# Altium integrated library TI Data Converters Digital to Analog Converter.IntLib: 1533 symbols (part 83 of 99)
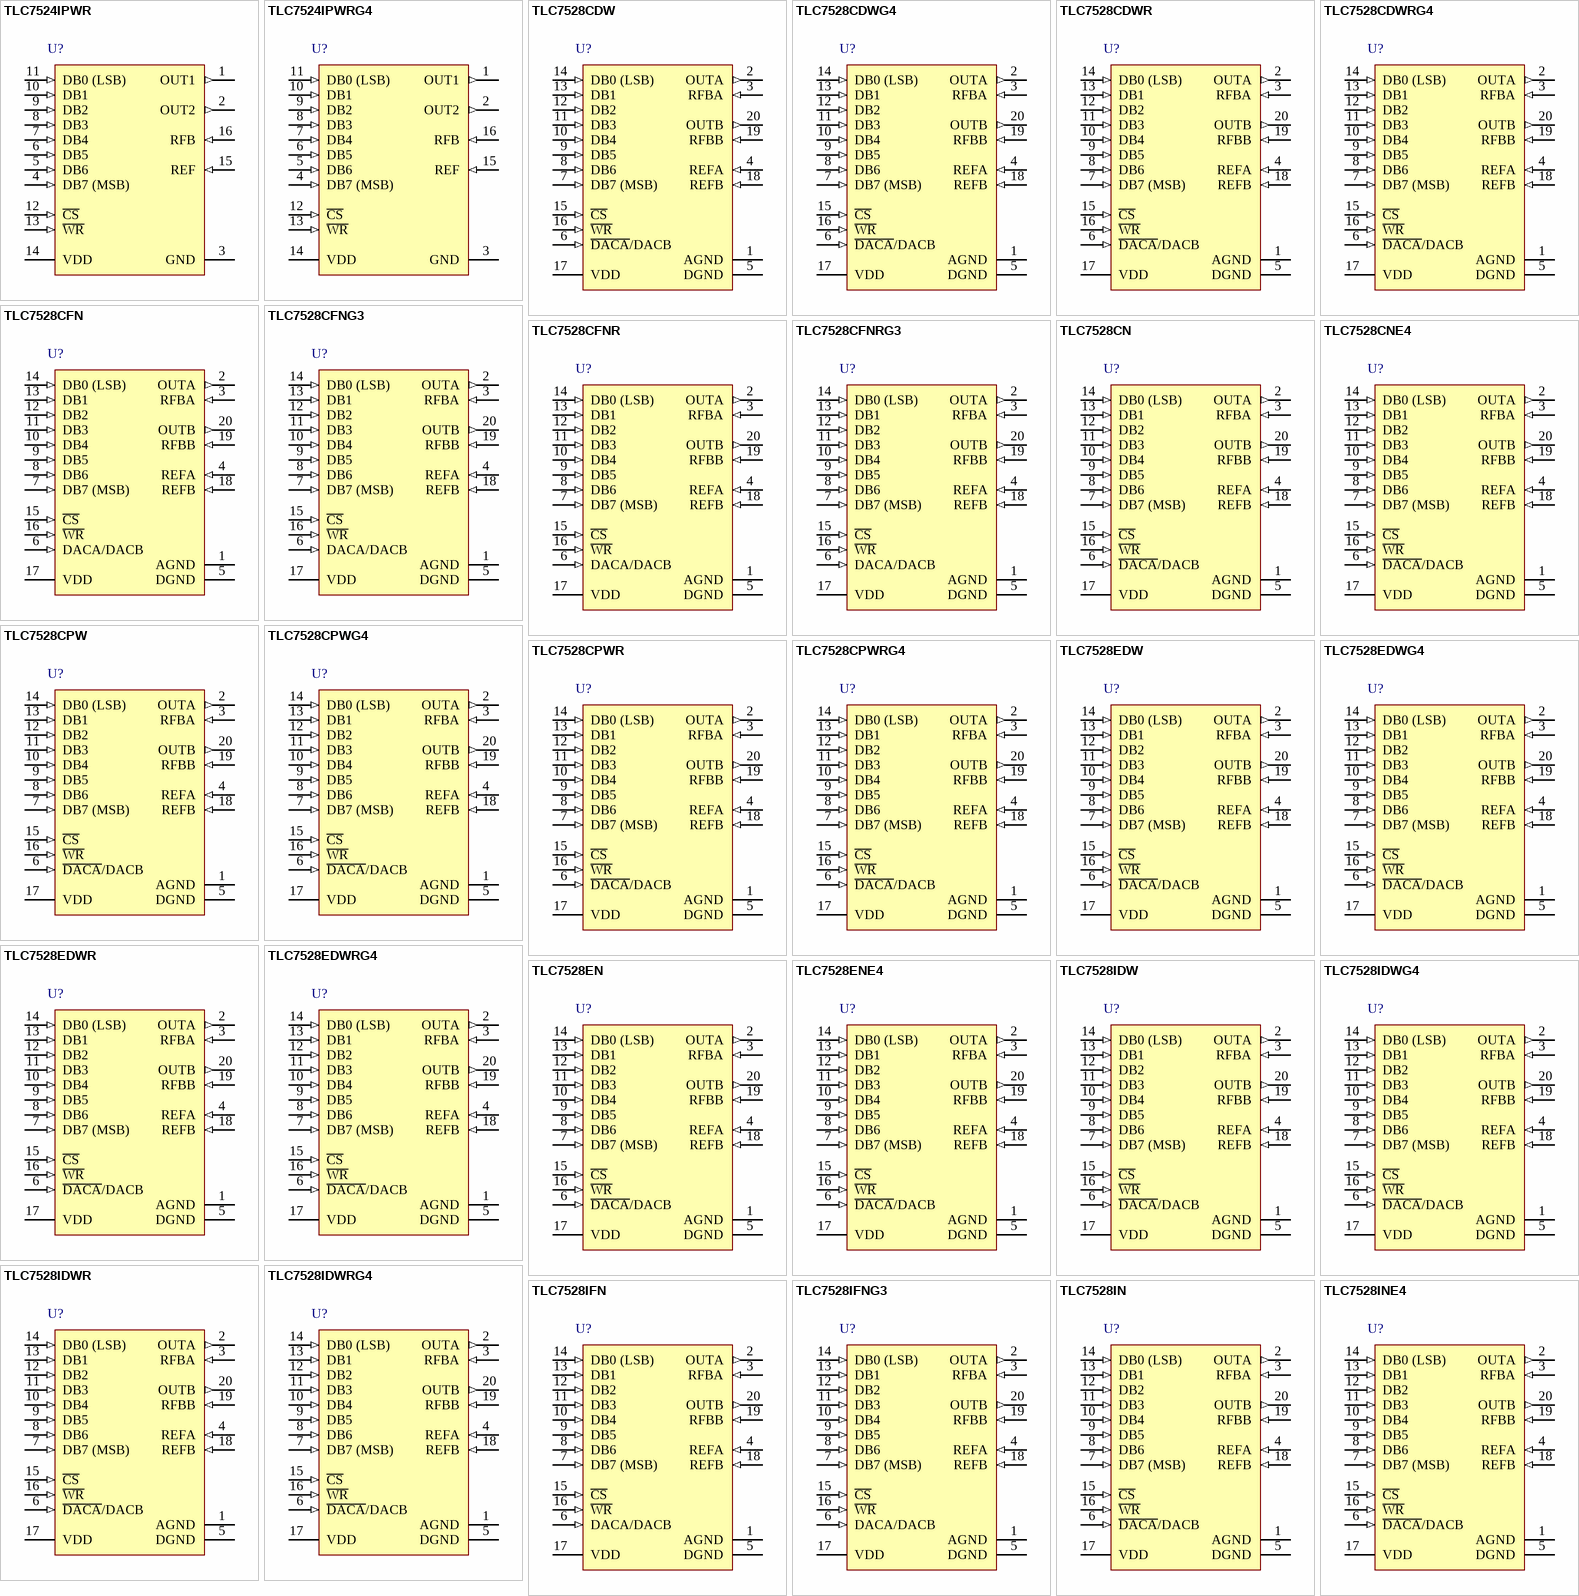
[diagram p155: symbols TLC7524IPWR to TLC7528INE4]

## TLC7528IN
designator U?
8-Bit, 0.1 us Dual MDAC, Parallel Input, Fast Control Signalling for DSP, Easy Micro Interface, -25 to 85 degC, 20-pin DIP (N20), Pb-Free (RoHS); Manufacturer: Texas Instruments; PartNumber: TLC7528IN; DAC Channels: 2; DNL(Max)(+/-LSB): 0.5; Resolution(Bits): 8; Settling Time(us): 0.1; SubFamily: Precision DAC (=<10MSPS); DatasheetVersion: SLAS062E; PackageVersion: 4040049/E, 12/2002; PackageReference: N20; PackageDescription: 20-Pin Plastic In-Line, Body 25.40 x 6.35 mm, Pitch 2.54 mm; Supplier 1: Digi-Key; Supplier Part Number 1: 296-3029-5-ND; Supplier 2: Mouser; Supplier Part Number 2: 595-TLC7528IN; Eco-Plan: Pb-Free (RoHS); INL(Max)(+/-LSB): 0.5; Interface: Parallel; Mounting Technology: Through Hole; Code_JEDEC: MS-001; ComponentLink1Description: Manufacturer URL; ComponentLink1URL: http://www.ti.com/; ComponentLink2Description: Datasheet; ComponentLink2URL: http://www.ti.com/general/docs/lit/getliterature.tsp?genericPartNumber=TLC7528&fileType=pdf; ComponentLink3Description: Package Specification; ComponentLink3URL: http://www.ti.com/lit/ml/mpdi002c/mpdi002c.pdf
footprint TI-N20 (DIP, 20-Leads, Body 25.4x6.35 mm, Pitch 2.54 mm)
pins: 1 AGND (power), 2 OUTA (out), 3 RFBA (in), 4 REFA (in), 5 DGND (power), 6 ~{DACA}/DACB (in), 7 DB7 (MSB) (in), 8 DB6 (in), 9 DB5 (in), 10 DB4 (in), 11 DB3 (in), 12 DB2 (in), 13 DB1 (in), 14 DB0 (LSB) (in), 15 ~{CS} (in), 16 ~{WR} (in), 17 VDD (power), 18 REFB (in), 19 RFBB (in), 20 OUTB (out)

## TLC7528INE4
designator U?
8-Bit, 0.1 us Dual MDAC, Parallel Input, Fast Control Signalling for DSP, Easy Micro Interface, -25 to 85 degC, 20-pin DIP (N20), Pb-Free (RoHS); Manufacturer: Texas Instruments; PartNumber: TLC7528INE4; DAC Channels: 2; DNL(Max)(+/-LSB): 0.5; Resolution(Bits): 8; Settling Time(us): 0.1; SubFamily: Precision DAC (=<10MSPS); DatasheetVersion: SLAS062E; PackageVersion: 4040049/E, 12/2002; PackageReference: N20; PackageDescription: 20-Pin Plastic In-Line, Body 25.40 x 6.35 mm, Pitch 2.54 mm; Supplier 1: Digi-Key; Supplier Part Number 1: TLC7528INE4-ND; Supplier 2: Newark; Supplier Part Number 2: 24K5354; Supplier 3: Mouser; Supplier Part Number 3: 595-TLC7528INE4; Eco-Plan: Pb-Free (RoHS); INL(Max)(+/-LSB): 0.5; Interface: Parallel; Mounting Technology: Through Hole; Code_JEDEC: MS-001; ComponentLink1Description: Manufacturer URL; ComponentLink1URL: http://www.ti.com/; ComponentLink2Description: Datasheet; ComponentLink2URL: http://www.ti.com/general/docs/lit/getliterature.tsp?genericPartNumber=TLC7528&fileType=pdf; ComponentLink3Description: Package Specification; ComponentLink3URL: http://www.ti.com/lit/ml/mpdi002c/mpdi002c.pdf
footprint TI-N20 (DIP, 20-Leads, Body 25.4x6.35 mm, Pitch 2.54 mm)
pins: 1 AGND (power), 2 OUTA (out), 3 RFBA (in), 4 REFA (in), 5 DGND (power), 6 ~{DACA}/DACB (in), 7 DB7 (MSB) (in), 8 DB6 (in), 9 DB5 (in), 10 DB4 (in), 11 DB3 (in), 12 DB2 (in), 13 DB1 (in), 14 DB0 (LSB) (in), 15 ~{CS} (in), 16 ~{WR} (in), 17 VDD (power), 18 REFB (in), 19 RFBB (in), 20 OUTB (out)

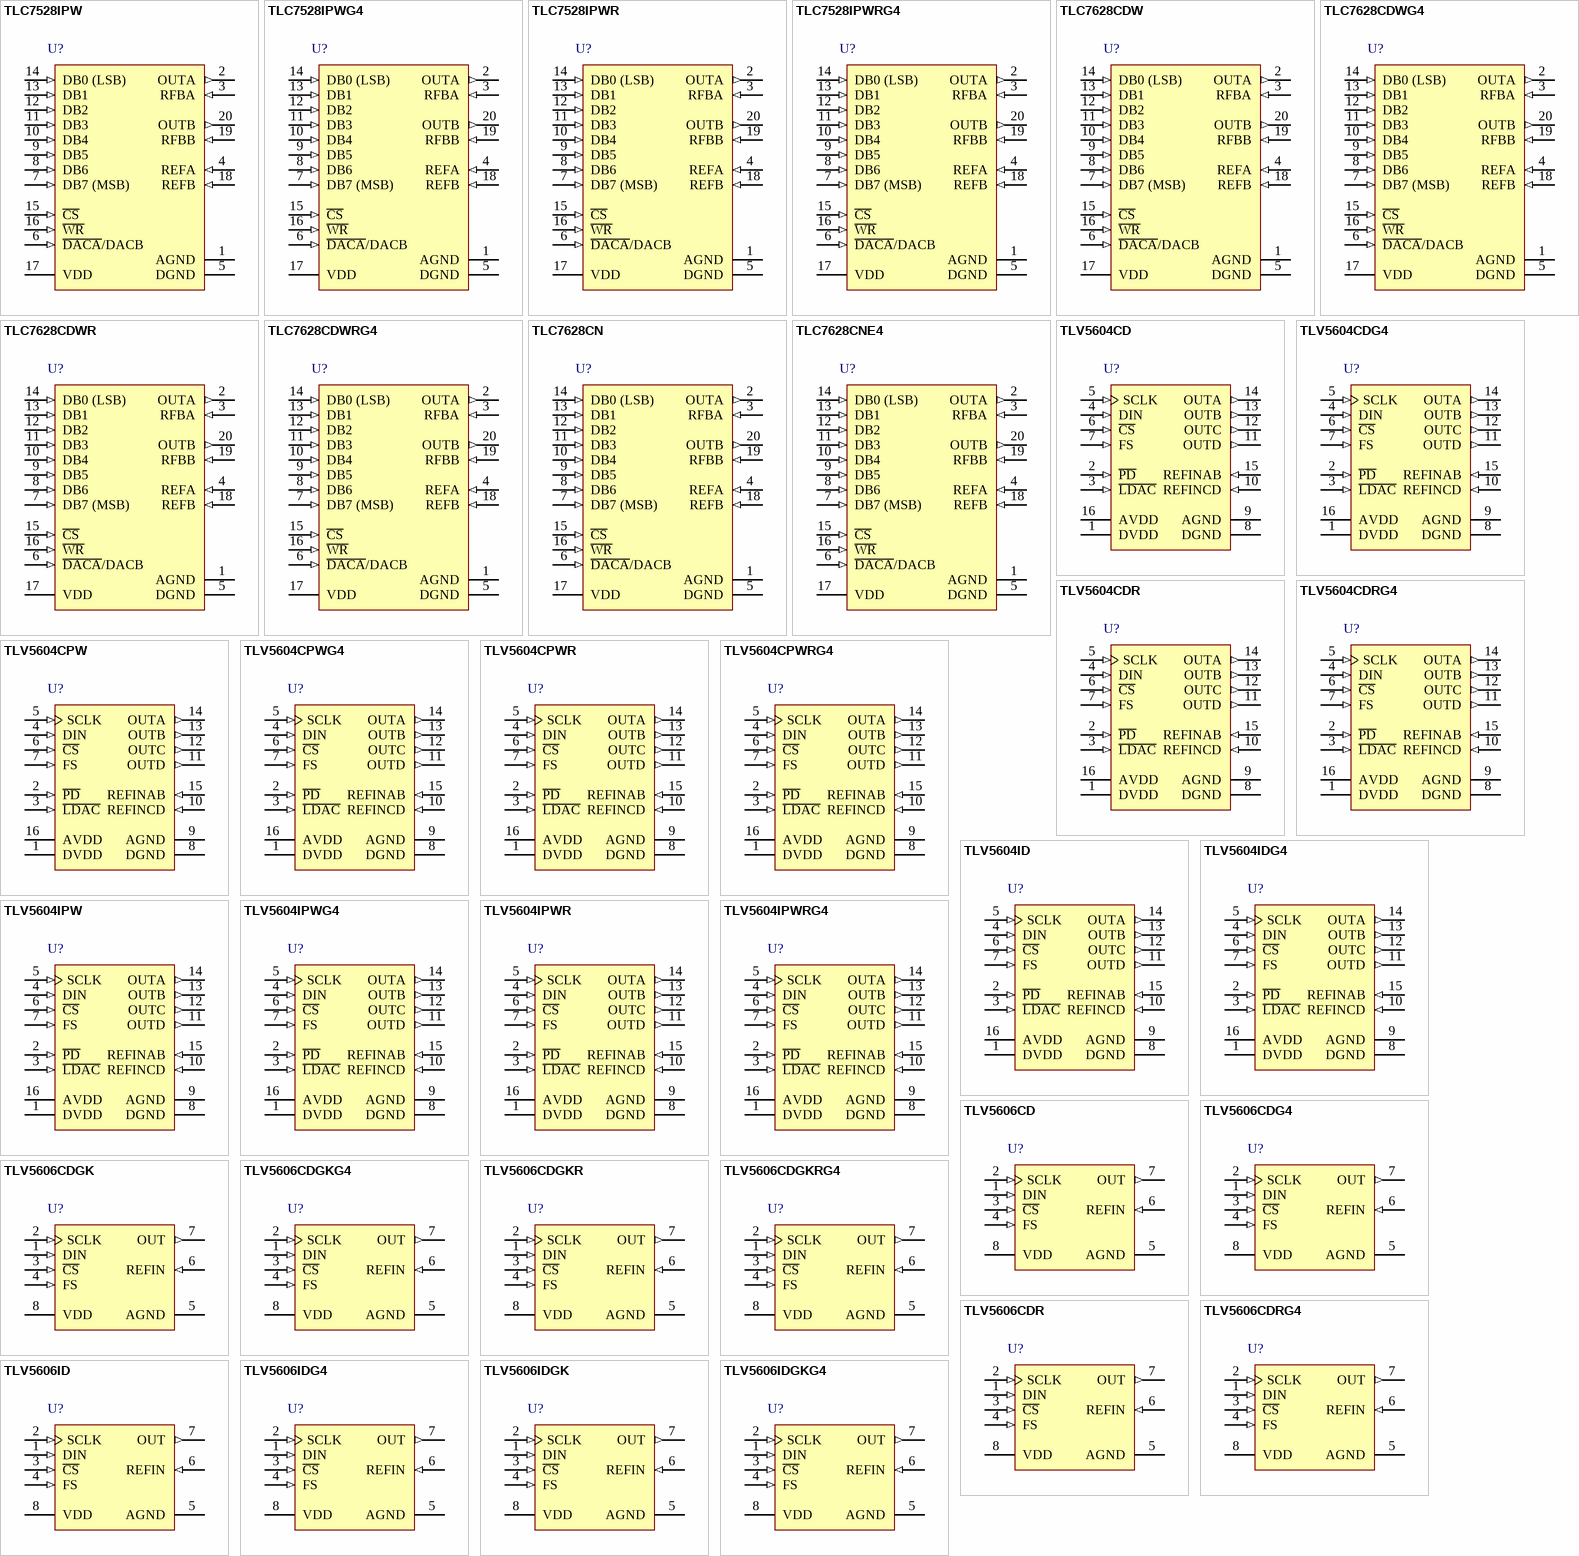
[diagram p62: symbols TLC7528IPW to TLV5606IDGKG4]

## TLC7528IPW
designator U?
8-Bit, 0.1 us Dual MDAC, Parallel Input, Fast Control Signalling for DSP, Easy Micro Interface, -25 to 85 degC, 20-pin SOP (PW20), Green (RoHS & no Sb/Br); Manufacturer: Texas Instruments; PartNumber: TLC7528IPW; DAC Channels: 2; DNL(Max)(+/-LSB): 0.5; Resolution(Bits): 8; Settling Time(us): 0.1; SubFamily: Precision DAC (=<10MSPS); DatasheetVersion: SLAS062E; PackageVersion: 4040064-5/G, 02/2011; PackageReference: PW20; PackageDescription: 20-Pin Plastic Small Outline, Body 6.5 x 4.4 mm, Pitch 0.65 mm; Supplier 1: Digi-Key; Supplier Part Number 1: 296-3030-5-ND; Supplier 2: Mouser; Supplier Part Number 2: 595-TLC7528IPW; Eco-Plan: Green (RoHS & no Sb/Br); INL(Max)(+/-LSB): 0.5; Interface: Parallel; Mounting Technology: Surface Mount; Code_JEDEC: MO-153; ComponentLink1Description: Manufacturer URL; ComponentLink1URL: http://www.ti.com/; ComponentLink2Description: Datasheet; ComponentLink2URL: http://www.ti.com/general/docs/lit/getliterature.tsp?genericPartNumber=TLC7528&fileType=pdf; ComponentLink3Description: Package Specification; ComponentLink3URL: http://www.ti.com.cn/cn/lit/ml/mpds362/mpds362.pdf
footprint TI-PW20_N (SOP, 20-Leads, Body 6.5x4.4mm, Pitch 0.65mm, IPC Medium Density)
footprint TI-PW20_L (SOP, 20-Leads, Body 6.5x4.4mm, Pitch 0.65mm, IPC High Density)
footprint TI-PW20_M (SOP, 20-Leads, Body 6.5x4.4mm, Pitch 0.65mm, IPC Low Density)
pins: 1 AGND (power), 2 OUTA (out), 3 RFBA (in), 4 REFA (in), 5 DGND (power), 6 ~{DACA}/DACB (in), 7 DB7 (MSB) (in), 8 DB6 (in), 9 DB5 (in), 10 DB4 (in), 11 DB3 (in), 12 DB2 (in), 13 DB1 (in), 14 DB0 (LSB) (in), 15 ~{CS} (in), 16 ~{WR} (in), 17 VDD (power), 18 REFB (in), 19 RFBB (in), 20 OUTB (out)

## TLC7528IPWG4
designator U?
8-Bit, 0.1 us Dual MDAC, Parallel Input, Fast Control Signalling for DSP, Easy Micro Interface, -25 to 85 degC, 20-pin SOP (PW20), Green (RoHS & no Sb/Br); Manufacturer: Texas Instruments; PartNumber: TLC7528IPWG4; DAC Channels: 2; DNL(Max)(+/-LSB): 0.5; Resolution(Bits): 8; Settling Time(us): 0.1; SubFamily: Precision DAC (=<10MSPS); DatasheetVersion: SLAS062E; PackageVersion: 4040064-5/G, 02/2011; PackageReference: PW20; PackageDescription: 20-Pin Plastic Small Outline, Body 6.5 x 4.4 mm, Pitch 0.65 mm; Supplier 1: Digi-Key; Supplier Part Number 1: TLC7528IPWG4-ND; Supplier 2: Mouser; Supplier Part Number 2: 595-TLC7528IPWG4; Eco-Plan: Green (RoHS & no Sb/Br); INL(Max)(+/-LSB): 0.5; Interface: Parallel; Mounting Technology: Surface Mount; Code_JEDEC: MO-153; ComponentLink1Description: Manufacturer URL; ComponentLink1URL: http://www.ti.com/; ComponentLink2Description: Datasheet; ComponentLink2URL: http://www.ti.com/general/docs/lit/getliterature.tsp?genericPartNumber=TLC7528&fileType=pdf; ComponentLink3Description: Package Specification; ComponentLink3URL: http://www.ti.com.cn/cn/lit/ml/mpds362/mpds362.pdf
footprint TI-PW20_N (SOP, 20-Leads, Body 6.5x4.4mm, Pitch 0.65mm, IPC Medium Density)
footprint TI-PW20_L (SOP, 20-Leads, Body 6.5x4.4mm, Pitch 0.65mm, IPC High Density)
footprint TI-PW20_M (SOP, 20-Leads, Body 6.5x4.4mm, Pitch 0.65mm, IPC Low Density)
pins: 1 AGND (power), 2 OUTA (out), 3 RFBA (in), 4 REFA (in), 5 DGND (power), 6 ~{DACA}/DACB (in), 7 DB7 (MSB) (in), 8 DB6 (in), 9 DB5 (in), 10 DB4 (in), 11 DB3 (in), 12 DB2 (in), 13 DB1 (in), 14 DB0 (LSB) (in), 15 ~{CS} (in), 16 ~{WR} (in), 17 VDD (power), 18 REFB (in), 19 RFBB (in), 20 OUTB (out)

## TLC7528IPWR
designator U?
8-Bit, 0.1 us Dual MDAC, Parallel Input, Fast Control Signalling for DSP, Easy Micro Interface, -25 to 85 degC, 20-pin SOP (PW20), Green (RoHS & no Sb/Br); Manufacturer: Texas Instruments; PartNumber: TLC7528IPWR; DAC Channels: 2; DNL(Max)(+/-LSB): 0.5; Resolution(Bits): 8; Settling Time(us): 0.1; SubFamily: Precision DAC (=<10MSPS); DatasheetVersion: SLAS062E; PackageVersion: 4040064-5/G, 02/2011; PackageReference: PW20; PackageDescription: 20-Pin Plastic Small Outline, Body 6.5 x 4.4 mm, Pitch 0.65 mm; Supplier 1: Digi-Key; Supplier Part Number 1: TLC7528IPWR-ND; Supplier 2: Mouser; Supplier Part Number 2: 595-TLC7528IPWR; Eco-Plan: Green (RoHS & no Sb/Br); INL(Max)(+/-LSB): 0.5; Interface: Parallel; Mounting Technology: Surface Mount; Code_JEDEC: MO-153; ComponentLink1Description: Manufacturer URL; ComponentLink1URL: http://www.ti.com/; ComponentLink2Description: Datasheet; ComponentLink2URL: http://www.ti.com/general/docs/lit/getliterature.tsp?genericPartNumber=TLC7528&fileType=pdf; ComponentLink3Description: Package Specification; ComponentLink3URL: http://www.ti.com.cn/cn/lit/ml/mpds362/mpds362.pdf
footprint TI-PW20_N (SOP, 20-Leads, Body 6.5x4.4mm, Pitch 0.65mm, IPC Medium Density)
footprint TI-PW20_L (SOP, 20-Leads, Body 6.5x4.4mm, Pitch 0.65mm, IPC High Density)
footprint TI-PW20_M (SOP, 20-Leads, Body 6.5x4.4mm, Pitch 0.65mm, IPC Low Density)
pins: 1 AGND (power), 2 OUTA (out), 3 RFBA (in), 4 REFA (in), 5 DGND (power), 6 ~{DACA}/DACB (in), 7 DB7 (MSB) (in), 8 DB6 (in), 9 DB5 (in), 10 DB4 (in), 11 DB3 (in), 12 DB2 (in), 13 DB1 (in), 14 DB0 (LSB) (in), 15 ~{CS} (in), 16 ~{WR} (in), 17 VDD (power), 18 REFB (in), 19 RFBB (in), 20 OUTB (out)

## TLC7528IPWRG4
designator U?
8-Bit, 0.1 us Dual MDAC, Parallel Input, Fast Control Signalling for DSP, Easy Micro Interface, -25 to 85 degC, 20-pin SOP (PW20), Green (RoHS & no Sb/Br); Manufacturer: Texas Instruments; PartNumber: TLC7528IPWRG4; DAC Channels: 2; DNL(Max)(+/-LSB): 0.5; Resolution(Bits): 8; Settling Time(us): 0.1; SubFamily: Precision DAC (=<10MSPS); DatasheetVersion: SLAS062E; PackageVersion: 4040064-5/G, 02/2011; PackageReference: PW20; PackageDescription: 20-Pin Plastic Small Outline, Body 6.5 x 4.4 mm, Pitch 0.65 mm; Supplier 1: Digi-Key; Supplier Part Number 1: TLC7528IPWRG4-ND; Supplier 2: Mouser; Supplier Part Number 2: 595-TLC7528IPWRG4; Eco-Plan: Green (RoHS & no Sb/Br); INL(Max)(+/-LSB): 0.5; Interface: Parallel; Mounting Technology: Surface Mount; Code_JEDEC: MO-153; ComponentLink1Description: Manufacturer URL; ComponentLink1URL: http://www.ti.com/; ComponentLink2Description: Datasheet; ComponentLink2URL: http://www.ti.com/general/docs/lit/getliterature.tsp?genericPartNumber=TLC7528&fileType=pdf; ComponentLink3Description: Package Specification; ComponentLink3URL: http://www.ti.com.cn/cn/lit/ml/mpds362/mpds362.pdf
footprint TI-PW20_N (SOP, 20-Leads, Body 6.5x4.4mm, Pitch 0.65mm, IPC Medium Density)
footprint TI-PW20_L (SOP, 20-Leads, Body 6.5x4.4mm, Pitch 0.65mm, IPC High Density)
footprint TI-PW20_M (SOP, 20-Leads, Body 6.5x4.4mm, Pitch 0.65mm, IPC Low Density)
pins: 1 AGND (power), 2 OUTA (out), 3 RFBA (in), 4 REFA (in), 5 DGND (power), 6 ~{DACA}/DACB (in), 7 DB7 (MSB) (in), 8 DB6 (in), 9 DB5 (in), 10 DB4 (in), 11 DB3 (in), 12 DB2 (in), 13 DB1 (in), 14 DB0 (LSB) (in), 15 ~{CS} (in), 16 ~{WR} (in), 17 VDD (power), 18 REFB (in), 19 RFBB (in), 20 OUTB (out)

## TLC7628CDW
designator U?
8-Bit, 0.1 us Dual MDAC, Parallel Input, Fast Control Signalling for DSP, 0 to 70 degC, 20-pin SOIC (DW20), Green (RoHS & no Sb/Br); Manufacturer: Texas Instruments; PartNumber: TLC7628CDW; DAC Channels: 2; DNL(Max)(+/-LSB): 0.5; Power Consumption(Typ)(mW): 20; Resolution(Bits): 8; Settling Time(us): 0.1; SubFamily: Precision DAC (=<10MSPS); DatasheetVersion: SLAS063B; PackageVersion: 4040000-4/G, 01/2011; PackageReference: DW20; PackageDescription: 20-Pin Plastic Small Outline, Body 12.8 x 7.5 mm, Pitch 1.27 mm; Supplier 1: Digi-Key; Supplier Part Number 1: 296-3031-5-ND; Supplier 2: Mouser; Supplier Part Number 2: 595-TLC7628CDW; Eco-Plan: Green (RoHS & no Sb/Br); INL(Max)(+/-LSB): 0.5; Interface: Parallel; Mounting Technology: Surface Mount; Code_JEDEC: MO-013; ComponentLink1Description: Manufacturer URL; ComponentLink1URL: http://www.ti.com/; ComponentLink2Description: Datasheet; ComponentLink2URL: http://www.ti.com/general/docs/lit/getliterature.tsp?genericPartNumber=TLC7628&fileType=pdf; ComponentLink3Description: Package Specification; ComponentLink3URL: http://www.ti.com/lit/ml/mpds173a/mpds173a.pdf
footprint TI-DW20_N (SOIC, 20-Leads, Body 12.8x7.5mm, Pitch 1.27mm, IPC Medium Density)
footprint TI-DW20_L (SOIC, 20-Leads, Body 12.8x7.5mm, Pitch 1.27mm, IPC High Density)
footprint TI-DW20_M (SOIC, 20-Leads, Body 12.8x7.5mm, Pitch 1.27mm, IPC Low Density)
pins: 1 AGND (power), 2 OUTA (out), 3 RFBA (in), 4 REFA (in), 5 DGND (power), 6 ~{DACA}/DACB (in), 7 DB7 (MSB) (in), 8 DB6 (in), 9 DB5 (in), 10 DB4 (in), 11 DB3 (in), 12 DB2 (in), 13 DB1 (in), 14 DB0 (LSB) (in), 15 ~{CS} (in), 16 ~{WR} (in), 17 VDD (power), 18 REFB (in), 19 RFBB (in), 20 OUTB (out)

## TLC7628CDWG4
designator U?
8-Bit, 0.1 us Dual MDAC, Parallel Input, Fast Control Signalling for DSP, 0 to 70 degC, 20-pin SOIC (DW20), Green (RoHS & no Sb/Br); Manufacturer: Texas Instruments; PartNumber: TLC7628CDWG4; DAC Channels: 2; DNL(Max)(+/-LSB): 0.5; Power Consumption(Typ)(mW): 20; Resolution(Bits): 8; Settling Time(us): 0.1; SubFamily: Precision DAC (=<10MSPS); DatasheetVersion: SLAS063B; PackageVersion: 4040000-4/G, 01/2011; PackageReference: DW20; PackageDescription: 20-Pin Plastic Small Outline, Body 12.8 x 7.5 mm, Pitch 1.27 mm; Supplier 1: Digi-Key; Supplier Part Number 1: TLC7628CDWG4-ND; Supplier 2: Mouser; Supplier Part Number 2: 595-TLC7628CDWG4; Eco-Plan: Green (RoHS & no Sb/Br); INL(Max)(+/-LSB): 0.5; Interface: Parallel; Mounting Technology: Surface Mount; Code_JEDEC: MO-013; ComponentLink1Description: Manufacturer URL; ComponentLink1URL: http://www.ti.com/; ComponentLink2Description: Datasheet; ComponentLink2URL: http://www.ti.com/general/docs/lit/getliterature.tsp?genericPartNumber=TLC7628&fileType=pdf; ComponentLink3Description: Package Specification; ComponentLink3URL: http://www.ti.com/lit/ml/mpds173a/mpds173a.pdf
footprint TI-DW20_N (SOIC, 20-Leads, Body 12.8x7.5mm, Pitch 1.27mm, IPC Medium Density)
footprint TI-DW20_L (SOIC, 20-Leads, Body 12.8x7.5mm, Pitch 1.27mm, IPC High Density)
footprint TI-DW20_M (SOIC, 20-Leads, Body 12.8x7.5mm, Pitch 1.27mm, IPC Low Density)
pins: 1 AGND (power), 2 OUTA (out), 3 RFBA (in), 4 REFA (in), 5 DGND (power), 6 ~{DACA}/DACB (in), 7 DB7 (MSB) (in), 8 DB6 (in), 9 DB5 (in), 10 DB4 (in), 11 DB3 (in), 12 DB2 (in), 13 DB1 (in), 14 DB0 (LSB) (in), 15 ~{CS} (in), 16 ~{WR} (in), 17 VDD (power), 18 REFB (in), 19 RFBB (in), 20 OUTB (out)

## TLC7628CDWR
designator U?
8-Bit, 0.1 us Dual MDAC, Parallel Input, Fast Control Signalling for DSP, 0 to 70 degC, 20-pin SOIC (DW20), Green (RoHS & no Sb/Br); Manufacturer: Texas Instruments; PartNumber: TLC7628CDWR; DAC Channels: 2; DNL(Max)(+/-LSB): 0.5; Power Consumption(Typ)(mW): 20; Resolution(Bits): 8; Settling Time(us): 0.1; SubFamily: Precision DAC (=<10MSPS); DatasheetVersion: SLAS063B; PackageVersion: 4040000-4/G, 01/2011; PackageReference: DW20; PackageDescription: 20-Pin Plastic Small Outline, Body 12.8 x 7.5 mm, Pitch 1.27 mm; Supplier 1: Digi-Key; Supplier Part Number 1: TLC7628CDWR-ND; Supplier 2: Mouser; Supplier Part Number 2: 595-TLC7628CDWR; Eco-Plan: Green (RoHS & no Sb/Br); INL(Max)(+/-LSB): 0.5; Interface: Parallel; Mounting Technology: Surface Mount; Code_JEDEC: MO-013; ComponentLink1Description: Manufacturer URL; ComponentLink1URL: http://www.ti.com/; ComponentLink2Description: Datasheet; ComponentLink2URL: http://www.ti.com/general/docs/lit/getliterature.tsp?genericPartNumber=TLC7628&fileType=pdf; ComponentLink3Description: Package Specification; ComponentLink3URL: http://www.ti.com/lit/ml/mpds173a/mpds173a.pdf
footprint TI-DW20_N (SOIC, 20-Leads, Body 12.8x7.5mm, Pitch 1.27mm, IPC Medium Density)
footprint TI-DW20_L (SOIC, 20-Leads, Body 12.8x7.5mm, Pitch 1.27mm, IPC High Density)
footprint TI-DW20_M (SOIC, 20-Leads, Body 12.8x7.5mm, Pitch 1.27mm, IPC Low Density)
pins: 1 AGND (power), 2 OUTA (out), 3 RFBA (in), 4 REFA (in), 5 DGND (power), 6 ~{DACA}/DACB (in), 7 DB7 (MSB) (in), 8 DB6 (in), 9 DB5 (in), 10 DB4 (in), 11 DB3 (in), 12 DB2 (in), 13 DB1 (in), 14 DB0 (LSB) (in), 15 ~{CS} (in), 16 ~{WR} (in), 17 VDD (power), 18 REFB (in), 19 RFBB (in), 20 OUTB (out)

## TLC7628CDWRG4
designator U?
8-Bit, 0.1 us Dual MDAC, Parallel Input, Fast Control Signalling for DSP, 0 to 70 degC, 20-pin SOIC (DW20), Green (RoHS & no Sb/Br); Manufacturer: Texas Instruments; PartNumber: TLC7628CDWRG4; DAC Channels: 2; DNL(Max)(+/-LSB): 0.5; Power Consumption(Typ)(mW): 20; Resolution(Bits): 8; Settling Time(us): 0.1; SubFamily: Precision DAC (=<10MSPS); DatasheetVersion: SLAS063B; PackageVersion: 4040000-4/G, 01/2011; PackageReference: DW20; PackageDescription: 20-Pin Plastic Small Outline, Body 12.8 x 7.5 mm, Pitch 1.27 mm; Supplier 1: Digi-Key; Supplier Part Number 1: TLC7628CDWRG4-ND; Supplier 2: Mouser; Supplier Part Number 2: 595-TLC7628CDWRG4; Eco-Plan: Green (RoHS & no Sb/Br); INL(Max)(+/-LSB): 0.5; Interface: Parallel; Mounting Technology: Surface Mount; Code_JEDEC: MO-013; ComponentLink1Description: Manufacturer URL; ComponentLink1URL: http://www.ti.com/; ComponentLink2Description: Datasheet; ComponentLink2URL: http://www.ti.com/general/docs/lit/getliterature.tsp?genericPartNumber=TLC7628&fileType=pdf; ComponentLink3Description: Package Specification; ComponentLink3URL: http://www.ti.com/lit/ml/mpds173a/mpds173a.pdf
footprint TI-DW20_N (SOIC, 20-Leads, Body 12.8x7.5mm, Pitch 1.27mm, IPC Medium Density)
footprint TI-DW20_L (SOIC, 20-Leads, Body 12.8x7.5mm, Pitch 1.27mm, IPC High Density)
footprint TI-DW20_M (SOIC, 20-Leads, Body 12.8x7.5mm, Pitch 1.27mm, IPC Low Density)
pins: 1 AGND (power), 2 OUTA (out), 3 RFBA (in), 4 REFA (in), 5 DGND (power), 6 ~{DACA}/DACB (in), 7 DB7 (MSB) (in), 8 DB6 (in), 9 DB5 (in), 10 DB4 (in), 11 DB3 (in), 12 DB2 (in), 13 DB1 (in), 14 DB0 (LSB) (in), 15 ~{CS} (in), 16 ~{WR} (in), 17 VDD (power), 18 REFB (in), 19 RFBB (in), 20 OUTB (out)

## TLC7628CN
designator U?
8-Bit, 0.1 us Dual MDAC, Parallel Input, Fast Control Signalling for DSP, 0 to 70 degC, 20-pin DIP (N20), Pb-Free (RoHS); Manufacturer: Texas Instruments; PartNumber: TLC7628CN; DAC Channels: 2; DNL(Max)(+/-LSB): 0.5; Power Consumption(Typ)(mW): 20; Resolution(Bits): 8; Settling Time(us): 0.1; SubFamily: Precision DAC (=<10MSPS); DatasheetVersion: SLAS063B; PackageVersion: 4040049/E, 12/2002; PackageReference: N20; PackageDescription: 20-Pin Plastic In-Line, Body 25.40 x 6.35 mm, Pitch 2.54 mm; Supplier 1: Digi-Key; Supplier Part Number 1: 296-3032-5-ND; Supplier 2: Newark; Supplier Part Number 2: 76C7515; Supplier 3: Mouser; Supplier Part Number 3: 595-TLC7628CN; Eco-Plan: Pb-Free (RoHS); INL(Max)(+/-LSB): 0.5; Interface: Parallel; Mounting Technology: Through Hole; Code_JEDEC: MS-001; ComponentLink1Description: Manufacturer URL; ComponentLink1URL: http://www.ti.com/; ComponentLink2Description: Datasheet; ComponentLink2URL: http://www.ti.com/general/docs/lit/getliterature.tsp?genericPartNumber=TLC7628&fileType=pdf; ComponentLink3Description: Package Specification; ComponentLink3URL: http://www.ti.com/lit/ml/mpdi002c/mpdi002c.pdf
footprint TI-N20 (DIP, 20-Leads, Body 25.4x6.35 mm, Pitch 2.54 mm)
pins: 1 AGND (power), 2 OUTA (out), 3 RFBA (in), 4 REFA (in), 5 DGND (power), 6 ~{DACA}/DACB (in), 7 DB7 (MSB) (in), 8 DB6 (in), 9 DB5 (in), 10 DB4 (in), 11 DB3 (in), 12 DB2 (in), 13 DB1 (in), 14 DB0 (LSB) (in), 15 ~{CS} (in), 16 ~{WR} (in), 17 VDD (power), 18 REFB (in), 19 RFBB (in), 20 OUTB (out)

## TLC7628CNE4
designator U?
8-Bit, 0.1 us Dual MDAC, Parallel Input, Fast Control Signalling for DSP, 0 to 70 degC, 20-pin DIP (N20), Pb-Free (RoHS); Manufacturer: Texas Instruments; PartNumber: TLC7628CNE4; DAC Channels: 2; DNL(Max)(+/-LSB): 0.5; Power Consumption(Typ)(mW): 20; Resolution(Bits): 8; Settling Time(us): 0.1; SubFamily: Precision DAC (=<10MSPS); DatasheetVersion: SLAS063B; PackageVersion: 4040049/E, 12/2002; PackageReference: N20; PackageDescription: 20-Pin Plastic In-Line, Body 25.40 x 6.35 mm, Pitch 2.54 mm; Supplier 1: Digi-Key; Supplier Part Number 1: TLC7628CNE4-ND; Supplier 2: Newark; Supplier Part Number 2: 24K5355; Supplier 3: Mouser; Supplier Part Number 3: 595-TLC7628CNE4; Eco-Plan: Pb-Free (RoHS); INL(Max)(+/-LSB): 0.5; Interface: Parallel; Mounting Technology: Through Hole; Code_JEDEC: MS-001; ComponentLink1Description: Manufacturer URL; ComponentLink1URL: http://www.ti.com/; ComponentLink2Description: Datasheet; ComponentLink2URL: http://www.ti.com/general/docs/lit/getliterature.tsp?genericPartNumber=TLC7628&fileType=pdf; ComponentLink3Description: Package Specification; ComponentLink3URL: http://www.ti.com/lit/ml/mpdi002c/mpdi002c.pdf
footprint TI-N20 (DIP, 20-Leads, Body 25.4x6.35 mm, Pitch 2.54 mm)
pins: 1 AGND (power), 2 OUTA (out), 3 RFBA (in), 4 REFA (in), 5 DGND (power), 6 ~{DACA}/DACB (in), 7 DB7 (MSB) (in), 8 DB6 (in), 9 DB5 (in), 10 DB4 (in), 11 DB3 (in), 12 DB2 (in), 13 DB1 (in), 14 DB0 (LSB) (in), 15 ~{CS} (in), 16 ~{WR} (in), 17 VDD (power), 18 REFB (in), 19 RFBB (in), 20 OUTB (out)

## TLV5604CD
designator U?
10-Bit, 3 us Quad DAC, Serial Input, Simultaneous Update, Programmable Settling Time, Power Down, 0 to 70 degC, 16-pin SOIC (D16), Green (RoHS & no Sb/Br); Manufacturer: Texas Instruments; PartNumber: TLV5604CD; DAC Channels: 4; DNL(Max)(+/-LSB): 1; Interface: Serial SPI; Power Consumption(Typ)(mW): 3; Resolution(Bits): 10; SFDR(dB): 70; SNR(dB): 68; SubFamily: Precision DAC (=<10MSPS); DatasheetVersion: SLAS176B; PackageVersion: 4040047-6/M, 06/2011; PackageReference: D16; PackageDescription: 16-Pin Plastic Small Outline, Body 9.9 x 3.9 mm, Pitch 1.27 mm; Supplier 1: Digi-Key; Supplier Part Number 1: 296-2297-5-ND; Supplier 2: Farnell; Supplier Part Number 2: 8455570; Supplier 3: Newark; Supplier Part Number 3: 93K0564; Supplier 4: Newark; Supplier Part Number 4: 76C8877; Supplier 5: Mouser; Supplier Part Number 5: 595-TLV5604CD; Eco-Plan: Green (RoHS & no Sb/Br); INL(Max)(+/-LSB): 1; Settling Time(us): 3; Mounting Technology: Surface Mount; Code_JEDEC: MS-012; ComponentLink1Description: Manufacturer URL; ComponentLink1URL: http://www.ti.com/; ComponentLink2Description: Datasheet; ComponentLink2URL: http://www.ti.com/general/docs/lit/getliterature.tsp?genericPartNumber=TLV5604&fileType=pdf; ComponentLink3Description: Package Specification; ComponentLink3URL: http://www.ti.com/litv/pdf/mpds178g
footprint TI-D16_N (SOIC, 16-Leads, Body 9.9x3.9mm, Pitch 1.27mm, IPC Medium Density)
footprint TI-D16_L (SOIC, 16-Leads, Body 9.9x3.9mm, Pitch 1.27mm, IPC High Density)
footprint TI-D16_M (SOIC, 16-Leads, Body 9.9x3.9mm, Pitch 1.27mm, IPC Low Density)
pins: 1 DVDD (power) "Digital supply", 2 ~{PD} (in) "Power-down pin. Powers down all DACs (overriding their individual power down settings), and all output stages. This terminal is active low.", 3 ~{LDAC} (in) "Load DAC. When the L\D\A\C\ signal is high, no DAC output updates occur when the input digital data is read into the serial interface. The DAC outputs are only updated when L\D\A\C\ is low.", 4 DIN (in) "Serial data input", 5 SCLK (in) "Serial clock input", 6 ~{CS} (in) "Chip select. This terminal is active low.", 7 FS (in) "Frame sync input. The falling edge of the frame sync pulse indicates the start of a serial data frame shifted out to the TLV5627.", 8 DGND (power) "Digital ground", 9 AGND (power) "Analog ground", 10 REFINCD (in) "Voltage reference input for DACs C and D.", 11 OUTD (out) "DAC D output", 12 OUTC (out) "DAC C output", 13 OUTB (out) "DAC B output", 14 OUTA (out) "DAC A output", 15 REFINAB (in) "Voltage reference input for DACs A and B.", 16 AVDD (power) "Analog supply"

## TLV5604CDG4
designator U?
10-Bit, 3 us Quad DAC, Serial Input, Simultaneous Update, Programmable Settling Time, Power Down, 0 to 70 degC, 16-pin SOIC (D16), Green (RoHS & no Sb/Br); Manufacturer: Texas Instruments; PartNumber: TLV5604CDG4; DAC Channels: 4; DNL(Max)(+/-LSB): 1; Interface: Serial SPI; Power Consumption(Typ)(mW): 3; Resolution(Bits): 10; SFDR(dB): 70; SNR(dB): 68; SubFamily: Precision DAC (=<10MSPS); DatasheetVersion: SLAS176B; PackageVersion: 4040047-6/M, 06/2011; PackageReference: D16; PackageDescription: 16-Pin Plastic Small Outline, Body 9.9 x 3.9 mm, Pitch 1.27 mm; Supplier 1: Digi-Key; Supplier Part Number 1: TLV5604CDG4-ND; Supplier 2: Newark; Supplier Part Number 2: 37K4265; Supplier 3: Mouser; Supplier Part Number 3: 595-TLV5604CDG4; Eco-Plan: Green (RoHS & no Sb/Br); INL(Max)(+/-LSB): 1; Settling Time(us): 3; Mounting Technology: Surface Mount; Code_JEDEC: MS-012; ComponentLink1Description: Manufacturer URL; ComponentLink1URL: http://www.ti.com/; ComponentLink2Description: Datasheet; ComponentLink2URL: http://www.ti.com/general/docs/lit/getliterature.tsp?genericPartNumber=TLV5604&fileType=pdf; ComponentLink3Description: Package Specification; ComponentLink3URL: http://www.ti.com/litv/pdf/mpds178g
footprint TI-D16_N (SOIC, 16-Leads, Body 9.9x3.9mm, Pitch 1.27mm, IPC Medium Density)
footprint TI-D16_L (SOIC, 16-Leads, Body 9.9x3.9mm, Pitch 1.27mm, IPC High Density)
footprint TI-D16_M (SOIC, 16-Leads, Body 9.9x3.9mm, Pitch 1.27mm, IPC Low Density)
pins: 1 DVDD (power) "Digital supply", 2 ~{PD} (in) "Power-down pin. Powers down all DACs (overriding their individual power down settings), and all output stages. This terminal is active low.", 3 ~{LDAC} (in) "Load DAC. When the L\D\A\C\ signal is high, no DAC output updates occur when the input digital data is read into the serial interface. The DAC outputs are only updated when L\D\A\C\ is low.", 4 DIN (in) "Serial data input", 5 SCLK (in) "Serial clock input", 6 ~{CS} (in) "Chip select. This terminal is active low.", 7 FS (in) "Frame sync input. The falling edge of the frame sync pulse indicates the start of a serial data frame shifted out to the TLV5627.", 8 DGND (power) "Digital ground", 9 AGND (power) "Analog ground", 10 REFINCD (in) "Voltage reference input for DACs C and D.", 11 OUTD (out) "DAC D output", 12 OUTC (out) "DAC C output", 13 OUTB (out) "DAC B output", 14 OUTA (out) "DAC A output", 15 REFINAB (in) "Voltage reference input for DACs A and B.", 16 AVDD (power) "Analog supply"

## TLV5604CDR
designator U?
10-Bit, 3 us Quad DAC, Serial Input, Simultaneous Update, Programmable Settling Time, Power Down, 0 to 70 degC, 16-pin SOIC (D16), Green (RoHS & no Sb/Br); Manufacturer: Texas Instruments; PartNumber: TLV5604CDR; DAC Channels: 4; DNL(Max)(+/-LSB): 1; Interface: Serial SPI; Power Consumption(Typ)(mW): 3; Resolution(Bits): 10; SFDR(dB): 70; SNR(dB): 68; SubFamily: Precision DAC (=<10MSPS); DatasheetVersion: SLAS176B; PackageVersion: 4040047-6/M, 06/2011; PackageReference: D16; PackageDescription: 16-Pin Plastic Small Outline, Body 9.9 x 3.9 mm, Pitch 1.27 mm; Supplier 1: Digi-Key; Supplier Part Number 1: TLV5604CDR-ND; Supplier 2: Mouser; Supplier Part Number 2: 595-TLV5604CDR; Eco-Plan: Green (RoHS & no Sb/Br); INL(Max)(+/-LSB): 1; Settling Time(us): 3; Mounting Technology: Surface Mount; Code_JEDEC: MS-012; ComponentLink1Description: Manufacturer URL; ComponentLink1URL: http://www.ti.com/; ComponentLink2Description: Datasheet; ComponentLink2URL: http://www.ti.com/general/docs/lit/getliterature.tsp?genericPartNumber=TLV5604&fileType=pdf; ComponentLink3Description: Package Specification; ComponentLink3URL: http://www.ti.com/litv/pdf/mpds178g
footprint TI-D16_N (SOIC, 16-Leads, Body 9.9x3.9mm, Pitch 1.27mm, IPC Medium Density)
footprint TI-D16_L (SOIC, 16-Leads, Body 9.9x3.9mm, Pitch 1.27mm, IPC High Density)
footprint TI-D16_M (SOIC, 16-Leads, Body 9.9x3.9mm, Pitch 1.27mm, IPC Low Density)
pins: 1 DVDD (power) "Digital supply", 2 ~{PD} (in) "Power-down pin. Powers down all DACs (overriding their individual power down settings), and all output stages. This terminal is active low.", 3 ~{LDAC} (in) "Load DAC. When the L\D\A\C\ signal is high, no DAC output updates occur when the input digital data is read into the serial interface. The DAC outputs are only updated when L\D\A\C\ is low.", 4 DIN (in) "Serial data input", 5 SCLK (in) "Serial clock input", 6 ~{CS} (in) "Chip select. This terminal is active low.", 7 FS (in) "Frame sync input. The falling edge of the frame sync pulse indicates the start of a serial data frame shifted out to the TLV5627.", 8 DGND (power) "Digital ground", 9 AGND (power) "Analog ground", 10 REFINCD (in) "Voltage reference input for DACs C and D.", 11 OUTD (out) "DAC D output", 12 OUTC (out) "DAC C output", 13 OUTB (out) "DAC B output", 14 OUTA (out) "DAC A output", 15 REFINAB (in) "Voltage reference input for DACs A and B.", 16 AVDD (power) "Analog supply"

## TLV5604CDRG4
designator U?
10-Bit, 3 us Quad DAC, Serial Input, Simultaneous Update, Programmable Settling Time, Power Down, 0 to 70 degC, 16-pin SOIC (D16), Green (RoHS & no Sb/Br); Manufacturer: Texas Instruments; PartNumber: TLV5604CDRG4; DAC Channels: 4; DNL(Max)(+/-LSB): 1; Interface: Serial SPI; Power Consumption(Typ)(mW): 3; Resolution(Bits): 10; SFDR(dB): 70; SNR(dB): 68; SubFamily: Precision DAC (=<10MSPS); DatasheetVersion: SLAS176B; PackageVersion: 4040047-6/M, 06/2011; PackageReference: D16; PackageDescription: 16-Pin Plastic Small Outline, Body 9.9 x 3.9 mm, Pitch 1.27 mm; Supplier 1: Digi-Key; Supplier Part Number 1: TLV5604CDRG4-ND; Supplier 2: Mouser; Supplier Part Number 2: 595-TLV5604CDRG4; Eco-Plan: Green (RoHS & no Sb/Br); INL(Max)(+/-LSB): 1; Settling Time(us): 3; Mounting Technology: Surface Mount; Code_JEDEC: MS-012; ComponentLink1Description: Manufacturer URL; ComponentLink1URL: http://www.ti.com/; ComponentLink2Description: Datasheet; ComponentLink2URL: http://www.ti.com/general/docs/lit/getliterature.tsp?genericPartNumber=TLV5604&fileType=pdf; ComponentLink3Description: Package Specification; ComponentLink3URL: http://www.ti.com/litv/pdf/mpds178g
footprint TI-D16_N (SOIC, 16-Leads, Body 9.9x3.9mm, Pitch 1.27mm, IPC Medium Density)
footprint TI-D16_L (SOIC, 16-Leads, Body 9.9x3.9mm, Pitch 1.27mm, IPC High Density)
footprint TI-D16_M (SOIC, 16-Leads, Body 9.9x3.9mm, Pitch 1.27mm, IPC Low Density)
pins: 1 DVDD (power) "Digital supply", 2 ~{PD} (in) "Power-down pin. Powers down all DACs (overriding their individual power down settings), and all output stages. This terminal is active low.", 3 ~{LDAC} (in) "Load DAC. When the L\D\A\C\ signal is high, no DAC output updates occur when the input digital data is read into the serial interface. The DAC outputs are only updated when L\D\A\C\ is low.", 4 DIN (in) "Serial data input", 5 SCLK (in) "Serial clock input", 6 ~{CS} (in) "Chip select. This terminal is active low.", 7 FS (in) "Frame sync input. The falling edge of the frame sync pulse indicates the start of a serial data frame shifted out to the TLV5627.", 8 DGND (power) "Digital ground", 9 AGND (power) "Analog ground", 10 REFINCD (in) "Voltage reference input for DACs C and D.", 11 OUTD (out) "DAC D output", 12 OUTC (out) "DAC C output", 13 OUTB (out) "DAC B output", 14 OUTA (out) "DAC A output", 15 REFINAB (in) "Voltage reference input for DACs A and B.", 16 AVDD (power) "Analog supply"

## TLV5604CPW
designator U?
10-Bit, 3 us Quad DAC, Serial Input, Simultaneous Update, Programmable Settling Time, Power Down, 0 to 70 degC, 16-pin SOP (PW16), Green (RoHS & no Sb/Br); Manufacturer: Texas Instruments; PartNumber: TLV5604CPW; DAC Channels: 4; DNL(Max)(+/-LSB): 1; Interface: Serial SPI; Power Consumption(Typ)(mW): 3; Resolution(Bits): 10; SFDR(dB): 70; SNR(dB): 68; SubFamily: Precision DAC (=<10MSPS); DatasheetVersion: SLAS176B; PackageVersion: 4040064-4/G, 02/2011; PackageReference: PW16; PackageDescription: 16-Pin Plastic Small Outline, Body 5 x 4.4 mm, Pitch 0.65 mm; Supplier 1: Digi-Key; Supplier Part Number 1: 296-3033-5-ND; Supplier 2: Mouser; Supplier Part Number 2: 595-TLV5604CPW; Eco-Plan: Green (RoHS & no Sb/Br); INL(Max)(+/-LSB): 1; Settling Time(us): 3; Mounting Technology: Surface Mount; Code_JEDEC: MO-153; ComponentLink1Description: Manufacturer URL; ComponentLink1URL: http://www.ti.com/; ComponentLink2Description: Datasheet; ComponentLink2URL: http://www.ti.com/general/docs/lit/getliterature.tsp?genericPartNumber=TLV5604&fileType=pdf; ComponentLink3Description: Package Specification; ComponentLink3URL: http://www.ti.com/lit/ml/mpds361/mpds361.pdf
footprint TI-PW16_N (SOP, 16-Leads, Body 5x4.4mm, Pitch 0.65mm, IPC Medium Density)
footprint TI-PW16_L (SOP, 16-Leads, Body 5x4.4mm, Pitch 0.65mm, IPC High Density)
footprint TI-PW16_M (SOP, 16-Leads, Body 5x4.4mm, Pitch 0.65mm, IPC Low Density)
pins: 1 DVDD (power) "Digital supply", 2 ~{PD} (in) "Power-down pin. Powers down all DACs (overriding their individual power down settings), and all output stages. This terminal is active low.", 3 ~{LDAC} (in) "Load DAC. When the L\D\A\C\ signal is high, no DAC output updates occur when the input digital data is read into the serial interface. The DAC outputs are only updated when L\D\A\C\ is low.", 4 DIN (in) "Serial data input", 5 SCLK (in) "Serial clock input", 6 ~{CS} (in) "Chip select. This terminal is active low.", 7 FS (in) "Frame sync input. The falling edge of the frame sync pulse indicates the start of a serial data frame shifted out to the TLV5627.", 8 DGND (power) "Digital ground", 9 AGND (power) "Analog ground", 10 REFINCD (in) "Voltage reference input for DACs C and D.", 11 OUTD (out) "DAC D output", 12 OUTC (out) "DAC C output", 13 OUTB (out) "DAC B output", 14 OUTA (out) "DAC A output", 15 REFINAB (in) "Voltage reference input for DACs A and B.", 16 AVDD (power) "Analog supply"

## TLV5604CPWG4
designator U?
10-Bit, 3 us Quad DAC, Serial Input, Simultaneous Update, Programmable Settling Time, Power Down, 0 to 70 degC, 16-pin SOP (PW16), Green (RoHS & no Sb/Br); Manufacturer: Texas Instruments; PartNumber: TLV5604CPWG4; DAC Channels: 4; DNL(Max)(+/-LSB): 1; Interface: Serial SPI; Power Consumption(Typ)(mW): 3; Resolution(Bits): 10; SFDR(dB): 70; SNR(dB): 68; SubFamily: Precision DAC (=<10MSPS); DatasheetVersion: SLAS176B; PackageVersion: 4040064-4/G, 02/2011; PackageReference: PW16; PackageDescription: 16-Pin Plastic Small Outline, Body 5 x 4.4 mm, Pitch 0.65 mm; Supplier 1: Digi-Key; Supplier Part Number 1: TLV5604CPWG4-ND; Supplier 2: Newark; Supplier Part Number 2: 61K1814; Supplier 3: Mouser; Supplier Part Number 3: 595-TLV5604CPWG4; Eco-Plan: Green (RoHS & no Sb/Br); INL(Max)(+/-LSB): 1; Settling Time(us): 3; Mounting Technology: Surface Mount; Code_JEDEC: MO-153; ComponentLink1Description: Manufacturer URL; ComponentLink1URL: http://www.ti.com/; ComponentLink2Description: Datasheet; ComponentLink2URL: http://www.ti.com/general/docs/lit/getliterature.tsp?genericPartNumber=TLV5604&fileType=pdf; ComponentLink3Description: Package Specification; ComponentLink3URL: http://www.ti.com/lit/ml/mpds361/mpds361.pdf
footprint TI-PW16_N (SOP, 16-Leads, Body 5x4.4mm, Pitch 0.65mm, IPC Medium Density)
footprint TI-PW16_L (SOP, 16-Leads, Body 5x4.4mm, Pitch 0.65mm, IPC High Density)
footprint TI-PW16_M (SOP, 16-Leads, Body 5x4.4mm, Pitch 0.65mm, IPC Low Density)
pins: 1 DVDD (power) "Digital supply", 2 ~{PD} (in) "Power-down pin. Powers down all DACs (overriding their individual power down settings), and all output stages. This terminal is active low.", 3 ~{LDAC} (in) "Load DAC. When the L\D\A\C\ signal is high, no DAC output updates occur when the input digital data is read into the serial interface. The DAC outputs are only updated when L\D\A\C\ is low.", 4 DIN (in) "Serial data input", 5 SCLK (in) "Serial clock input", 6 ~{CS} (in) "Chip select. This terminal is active low.", 7 FS (in) "Frame sync input. The falling edge of the frame sync pulse indicates the start of a serial data frame shifted out to the TLV5627.", 8 DGND (power) "Digital ground", 9 AGND (power) "Analog ground", 10 REFINCD (in) "Voltage reference input for DACs C and D.", 11 OUTD (out) "DAC D output", 12 OUTC (out) "DAC C output", 13 OUTB (out) "DAC B output", 14 OUTA (out) "DAC A output", 15 REFINAB (in) "Voltage reference input for DACs A and B.", 16 AVDD (power) "Analog supply"

## TLV5604CPWR
designator U?
10-Bit, 3 us Quad DAC, Serial Input, Simultaneous Update, Programmable Settling Time, Power Down, 0 to 70 degC, 16-pin SOP (PW16), Green (RoHS & no Sb/Br); Manufacturer: Texas Instruments; PartNumber: TLV5604CPWR; DAC Channels: 4; DNL(Max)(+/-LSB): 1; Interface: Serial SPI; Power Consumption(Typ)(mW): 3; Resolution(Bits): 10; SFDR(dB): 70; SNR(dB): 68; SubFamily: Precision DAC (=<10MSPS); DatasheetVersion: SLAS176B; PackageVersion: 4040064-4/G, 02/2011; PackageReference: PW16; PackageDescription: 16-Pin Plastic Small Outline, Body 5 x 4.4 mm, Pitch 0.65 mm; Supplier 1: Digi-Key; Supplier Part Number 1: TLV5604CPWR-ND; Supplier 2: Mouser; Supplier Part Number 2: 595-TLV5604CPWR; Eco-Plan: Green (RoHS & no Sb/Br); INL(Max)(+/-LSB): 1; Settling Time(us): 3; Mounting Technology: Surface Mount; Code_JEDEC: MO-153; ComponentLink1Description: Manufacturer URL; ComponentLink1URL: http://www.ti.com/; ComponentLink2Description: Datasheet; ComponentLink2URL: http://www.ti.com/general/docs/lit/getliterature.tsp?genericPartNumber=TLV5604&fileType=pdf; ComponentLink3Description: Package Specification; ComponentLink3URL: http://www.ti.com/lit/ml/mpds361/mpds361.pdf
footprint TI-PW16_N (SOP, 16-Leads, Body 5x4.4mm, Pitch 0.65mm, IPC Medium Density)
footprint TI-PW16_L (SOP, 16-Leads, Body 5x4.4mm, Pitch 0.65mm, IPC High Density)
footprint TI-PW16_M (SOP, 16-Leads, Body 5x4.4mm, Pitch 0.65mm, IPC Low Density)
pins: 1 DVDD (power) "Digital supply", 2 ~{PD} (in) "Power-down pin. Powers down all DACs (overriding their individual power down settings), and all output stages. This terminal is active low.", 3 ~{LDAC} (in) "Load DAC. When the L\D\A\C\ signal is high, no DAC output updates occur when the input digital data is read into the serial interface. The DAC outputs are only updated when L\D\A\C\ is low.", 4 DIN (in) "Serial data input", 5 SCLK (in) "Serial clock input", 6 ~{CS} (in) "Chip select. This terminal is active low.", 7 FS (in) "Frame sync input. The falling edge of the frame sync pulse indicates the start of a serial data frame shifted out to the TLV5627.", 8 DGND (power) "Digital ground", 9 AGND (power) "Analog ground", 10 REFINCD (in) "Voltage reference input for DACs C and D.", 11 OUTD (out) "DAC D output", 12 OUTC (out) "DAC C output", 13 OUTB (out) "DAC B output", 14 OUTA (out) "DAC A output", 15 REFINAB (in) "Voltage reference input for DACs A and B.", 16 AVDD (power) "Analog supply"

## TLV5604CPWRG4
designator U?
10-Bit, 3 us Quad DAC, Serial Input, Simultaneous Update, Programmable Settling Time, Power Down, 0 to 70 degC, 16-pin SOP (PW16), Green (RoHS & no Sb/Br); Manufacturer: Texas Instruments; PartNumber: TLV5604CPWRG4; DAC Channels: 4; DNL(Max)(+/-LSB): 1; Interface: Serial SPI; Power Consumption(Typ)(mW): 3; Resolution(Bits): 10; SFDR(dB): 70; SNR(dB): 68; SubFamily: Precision DAC (=<10MSPS); DatasheetVersion: SLAS176B; PackageVersion: 4040064-4/G, 02/2011; PackageReference: PW16; PackageDescription: 16-Pin Plastic Small Outline, Body 5 x 4.4 mm, Pitch 0.65 mm; Supplier 1: Digi-Key; Supplier Part Number 1: TLV5604CPWRG4-ND; Supplier 2: Newark; Supplier Part Number 2: 54K1375; Supplier 3: Mouser; Supplier Part Number 3: 595-TLV5604CPWRG4; Eco-Plan: Green (RoHS & no Sb/Br); INL(Max)(+/-LSB): 1; Settling Time(us): 3; Mounting Technology: Surface Mount; Code_JEDEC: MO-153; ComponentLink1Description: Manufacturer URL; ComponentLink1URL: http://www.ti.com/; ComponentLink2Description: Datasheet; ComponentLink2URL: http://www.ti.com/general/docs/lit/getliterature.tsp?genericPartNumber=TLV5604&fileType=pdf; ComponentLink3Description: Package Specification; ComponentLink3URL: http://www.ti.com/lit/ml/mpds361/mpds361.pdf
footprint TI-PW16_N (SOP, 16-Leads, Body 5x4.4mm, Pitch 0.65mm, IPC Medium Density)
footprint TI-PW16_L (SOP, 16-Leads, Body 5x4.4mm, Pitch 0.65mm, IPC High Density)
footprint TI-PW16_M (SOP, 16-Leads, Body 5x4.4mm, Pitch 0.65mm, IPC Low Density)
pins: 1 DVDD (power) "Digital supply", 2 ~{PD} (in) "Power-down pin. Powers down all DACs (overriding their individual power down settings), and all output stages. This terminal is active low.", 3 ~{LDAC} (in) "Load DAC. When the L\D\A\C\ signal is high, no DAC output updates occur when the input digital data is read into the serial interface. The DAC outputs are only updated when L\D\A\C\ is low.", 4 DIN (in) "Serial data input", 5 SCLK (in) "Serial clock input", 6 ~{CS} (in) "Chip select. This terminal is active low.", 7 FS (in) "Frame sync input. The falling edge of the frame sync pulse indicates the start of a serial data frame shifted out to the TLV5627.", 8 DGND (power) "Digital ground", 9 AGND (power) "Analog ground", 10 REFINCD (in) "Voltage reference input for DACs C and D.", 11 OUTD (out) "DAC D output", 12 OUTC (out) "DAC C output", 13 OUTB (out) "DAC B output", 14 OUTA (out) "DAC A output", 15 REFINAB (in) "Voltage reference input for DACs A and B.", 16 AVDD (power) "Analog supply"

## TLV5604ID
designator U?
10-Bit, 3 us Quad DAC, Serial Input, Simultaneous Update, Programmable Settling Time, Power Down, -40 to 85 degC, 16-pin SOIC (D16), Green (RoHS & no Sb/Br); Manufacturer: Texas Instruments; PartNumber: TLV5604ID; DAC Channels: 4; DNL(Max)(+/-LSB): 1; Interface: Serial SPI; Power Consumption(Typ)(mW): 3; Resolution(Bits): 10; SFDR(dB): 70; SNR(dB): 68; SubFamily: Precision DAC (=<10MSPS); DatasheetVersion: SLAS176B; PackageVersion: 4040047-6/M, 06/2011; PackageReference: D16; PackageDescription: 16-Pin Plastic Small Outline, Body 9.9 x 3.9 mm, Pitch 1.27 mm; Supplier 1: Digi-Key; Supplier Part Number 1: 296-1916-5-ND; Supplier 2: Newark; Supplier Part Number 2: 93B3368; Supplier 3: Mouser; Supplier Part Number 3: 595-TLV5604ID; Eco-Plan: Green (RoHS & no Sb/Br); INL(Max)(+/-LSB): 1; Settling Time(us): 3; Mounting Technology: Surface Mount; Code_JEDEC: MS-012; ComponentLink1Description: Manufacturer URL; ComponentLink1URL: http://www.ti.com/; ComponentLink2Description: Datasheet; ComponentLink2URL: http://www.ti.com/general/docs/lit/getliterature.tsp?genericPartNumber=TLV5604&fileType=pdf; ComponentLink3Description: Package Specification; ComponentLink3URL: http://www.ti.com/litv/pdf/mpds178g
footprint TI-D16_N (SOIC, 16-Leads, Body 9.9x3.9mm, Pitch 1.27mm, IPC Medium Density)
footprint TI-D16_L (SOIC, 16-Leads, Body 9.9x3.9mm, Pitch 1.27mm, IPC High Density)
footprint TI-D16_M (SOIC, 16-Leads, Body 9.9x3.9mm, Pitch 1.27mm, IPC Low Density)
pins: 1 DVDD (power) "Digital supply", 2 ~{PD} (in) "Power-down pin. Powers down all DACs (overriding their individual power down settings), and all output stages. This terminal is active low.", 3 ~{LDAC} (in) "Load DAC. When the L\D\A\C\ signal is high, no DAC output updates occur when the input digital data is read into the serial interface. The DAC outputs are only updated when L\D\A\C\ is low.", 4 DIN (in) "Serial data input", 5 SCLK (in) "Serial clock input", 6 ~{CS} (in) "Chip select. This terminal is active low.", 7 FS (in) "Frame sync input. The falling edge of the frame sync pulse indicates the start of a serial data frame shifted out to the TLV5627.", 8 DGND (power) "Digital ground", 9 AGND (power) "Analog ground", 10 REFINCD (in) "Voltage reference input for DACs C and D.", 11 OUTD (out) "DAC D output", 12 OUTC (out) "DAC C output", 13 OUTB (out) "DAC B output", 14 OUTA (out) "DAC A output", 15 REFINAB (in) "Voltage reference input for DACs A and B.", 16 AVDD (power) "Analog supply"

## TLV5604IDG4
designator U?
10-Bit, 3 us Quad DAC, Serial Input, Simultaneous Update, Programmable Settling Time, Power Down, -40 to 85 degC, 16-pin SOIC (D16), Green (RoHS & no Sb/Br); Manufacturer: Texas Instruments; PartNumber: TLV5604IDG4; DAC Channels: 4; DNL(Max)(+/-LSB): 1; Interface: Serial SPI; Power Consumption(Typ)(mW): 3; Resolution(Bits): 10; SFDR(dB): 70; SNR(dB): 68; SubFamily: Precision DAC (=<10MSPS); DatasheetVersion: SLAS176B; PackageVersion: 4040047-6/M, 06/2011; PackageReference: D16; PackageDescription: 16-Pin Plastic Small Outline, Body 9.9 x 3.9 mm, Pitch 1.27 mm; Supplier 1: Digi-Key; Supplier Part Number 1: TLV5604IDG4-ND; Supplier 2: Newark; Supplier Part Number 2: 28M7783; Supplier 3: Mouser; Supplier Part Number 3: 595-TLV5604IDG4; Eco-Plan: Green (RoHS & no Sb/Br); INL(Max)(+/-LSB): 1; Settling Time(us): 3; Mounting Technology: Surface Mount; Code_JEDEC: MS-012; ComponentLink1Description: Manufacturer URL; ComponentLink1URL: http://www.ti.com/; ComponentLink2Description: Datasheet; ComponentLink2URL: http://www.ti.com/general/docs/lit/getliterature.tsp?genericPartNumber=TLV5604&fileType=pdf; ComponentLink3Description: Package Specification; ComponentLink3URL: http://www.ti.com/litv/pdf/mpds178g
footprint TI-D16_N (SOIC, 16-Leads, Body 9.9x3.9mm, Pitch 1.27mm, IPC Medium Density)
footprint TI-D16_L (SOIC, 16-Leads, Body 9.9x3.9mm, Pitch 1.27mm, IPC High Density)
footprint TI-D16_M (SOIC, 16-Leads, Body 9.9x3.9mm, Pitch 1.27mm, IPC Low Density)
pins: 1 DVDD (power) "Digital supply", 2 ~{PD} (in) "Power-down pin. Powers down all DACs (overriding their individual power down settings), and all output stages. This terminal is active low.", 3 ~{LDAC} (in) "Load DAC. When the L\D\A\C\ signal is high, no DAC output updates occur when the input digital data is read into the serial interface. The DAC outputs are only updated when L\D\A\C\ is low.", 4 DIN (in) "Serial data input", 5 SCLK (in) "Serial clock input", 6 ~{CS} (in) "Chip select. This terminal is active low.", 7 FS (in) "Frame sync input. The falling edge of the frame sync pulse indicates the start of a serial data frame shifted out to the TLV5627.", 8 DGND (power) "Digital ground", 9 AGND (power) "Analog ground", 10 REFINCD (in) "Voltage reference input for DACs C and D.", 11 OUTD (out) "DAC D output", 12 OUTC (out) "DAC C output", 13 OUTB (out) "DAC B output", 14 OUTA (out) "DAC A output", 15 REFINAB (in) "Voltage reference input for DACs A and B.", 16 AVDD (power) "Analog supply"

## TLV5604IPW
designator U?
10-Bit, 3 us Quad DAC, Serial Input, Simultaneous Update, Programmable Settling Time, Power Down, -40 to 85 degC, 16-pin SOP (PW16), Green (RoHS & no Sb/Br); Manufacturer: Texas Instruments; PartNumber: TLV5604IPW; DAC Channels: 4; DNL(Max)(+/-LSB): 1; Interface: Serial SPI; Power Consumption(Typ)(mW): 3; Resolution(Bits): 10; SFDR(dB): 70; SNR(dB): 68; SubFamily: Precision DAC (=<10MSPS); DatasheetVersion: SLAS176B; PackageVersion: 4040064-4/G, 02/2011; PackageReference: PW16; PackageDescription: 16-Pin Plastic Small Outline, Body 5 x 4.4 mm, Pitch 0.65 mm; Supplier 1: Digi-Key; Supplier Part Number 1: 296-1917-5-ND; Supplier 2: Mouser; Supplier Part Number 2: 595-TLV5604IPW; Eco-Plan: Green (RoHS & no Sb/Br); INL(Max)(+/-LSB): 1; Settling Time(us): 3; Mounting Technology: Surface Mount; Code_JEDEC: MO-153; ComponentLink1Description: Manufacturer URL; ComponentLink1URL: http://www.ti.com/; ComponentLink2Description: Datasheet; ComponentLink2URL: http://www.ti.com/general/docs/lit/getliterature.tsp?genericPartNumber=TLV5604&fileType=pdf; ComponentLink3Description: Package Specification; ComponentLink3URL: http://www.ti.com/lit/ml/mpds361/mpds361.pdf
footprint TI-PW16_N (SOP, 16-Leads, Body 5x4.4mm, Pitch 0.65mm, IPC Medium Density)
footprint TI-PW16_L (SOP, 16-Leads, Body 5x4.4mm, Pitch 0.65mm, IPC High Density)
footprint TI-PW16_M (SOP, 16-Leads, Body 5x4.4mm, Pitch 0.65mm, IPC Low Density)
pins: 1 DVDD (power) "Digital supply", 2 ~{PD} (in) "Power-down pin. Powers down all DACs (overriding their individual power down settings), and all output stages. This terminal is active low.", 3 ~{LDAC} (in) "Load DAC. When the L\D\A\C\ signal is high, no DAC output updates occur when the input digital data is read into the serial interface. The DAC outputs are only updated when L\D\A\C\ is low.", 4 DIN (in) "Serial data input", 5 SCLK (in) "Serial clock input", 6 ~{CS} (in) "Chip select. This terminal is active low.", 7 FS (in) "Frame sync input. The falling edge of the frame sync pulse indicates the start of a serial data frame shifted out to the TLV5627.", 8 DGND (power) "Digital ground", 9 AGND (power) "Analog ground", 10 REFINCD (in) "Voltage reference input for DACs C and D.", 11 OUTD (out) "DAC D output", 12 OUTC (out) "DAC C output", 13 OUTB (out) "DAC B output", 14 OUTA (out) "DAC A output", 15 REFINAB (in) "Voltage reference input for DACs A and B.", 16 AVDD (power) "Analog supply"

## TLV5604IPWG4
designator U?
10-Bit, 3 us Quad DAC, Serial Input, Simultaneous Update, Programmable Settling Time, Power Down, -40 to 85 degC, 16-pin SOP (PW16), Green (RoHS & no Sb/Br); Manufacturer: Texas Instruments; PartNumber: TLV5604IPWG4; DAC Channels: 4; DNL(Max)(+/-LSB): 1; Interface: Serial SPI; Power Consumption(Typ)(mW): 3; Resolution(Bits): 10; SFDR(dB): 70; SNR(dB): 68; SubFamily: Precision DAC (=<10MSPS); DatasheetVersion: SLAS176B; PackageVersion: 4040064-4/G, 02/2011; PackageReference: PW16; PackageDescription: 16-Pin Plastic Small Outline, Body 5 x 4.4 mm, Pitch 0.65 mm; Supplier 1: Digi-Key; Supplier Part Number 1: TLV5604IPWG4-ND; Supplier 2: Mouser; Supplier Part Number 2: 595-TLV5604IPWG4; Eco-Plan: Green (RoHS & no Sb/Br); INL(Max)(+/-LSB): 1; Settling Time(us): 3; Mounting Technology: Surface Mount; Code_JEDEC: MO-153; ComponentLink1Description: Manufacturer URL; ComponentLink1URL: http://www.ti.com/; ComponentLink2Description: Datasheet; ComponentLink2URL: http://www.ti.com/general/docs/lit/getliterature.tsp?genericPartNumber=TLV5604&fileType=pdf; ComponentLink3Description: Package Specification; ComponentLink3URL: http://www.ti.com/lit/ml/mpds361/mpds361.pdf
footprint TI-PW16_N (SOP, 16-Leads, Body 5x4.4mm, Pitch 0.65mm, IPC Medium Density)
footprint TI-PW16_L (SOP, 16-Leads, Body 5x4.4mm, Pitch 0.65mm, IPC High Density)
footprint TI-PW16_M (SOP, 16-Leads, Body 5x4.4mm, Pitch 0.65mm, IPC Low Density)
pins: 1 DVDD (power) "Digital supply", 2 ~{PD} (in) "Power-down pin. Powers down all DACs (overriding their individual power down settings), and all output stages. This terminal is active low.", 3 ~{LDAC} (in) "Load DAC. When the L\D\A\C\ signal is high, no DAC output updates occur when the input digital data is read into the serial interface. The DAC outputs are only updated when L\D\A\C\ is low.", 4 DIN (in) "Serial data input", 5 SCLK (in) "Serial clock input", 6 ~{CS} (in) "Chip select. This terminal is active low.", 7 FS (in) "Frame sync input. The falling edge of the frame sync pulse indicates the start of a serial data frame shifted out to the TLV5627.", 8 DGND (power) "Digital ground", 9 AGND (power) "Analog ground", 10 REFINCD (in) "Voltage reference input for DACs C and D.", 11 OUTD (out) "DAC D output", 12 OUTC (out) "DAC C output", 13 OUTB (out) "DAC B output", 14 OUTA (out) "DAC A output", 15 REFINAB (in) "Voltage reference input for DACs A and B.", 16 AVDD (power) "Analog supply"